# Altium footprint library GNSS.PcbLib: 2 footprints
Each footprint in its own frame and in the unit in brackets; x right, y up, seen from the top. Pads: shape width x height; smd on the part's side, far side on the other; paste and mask are expansions set on the pad; w line width, h text height; cw(c..) or ccw(c..) is an arc to the next point about the centre after c.
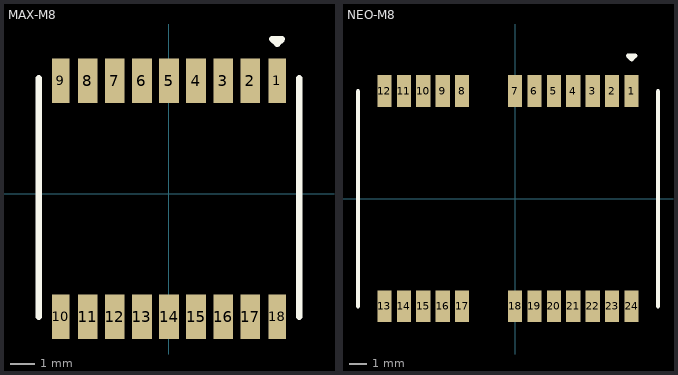
[diagram p0: the footprints below, top view; thin cyan lines are the x and y axes]

## MAX-M8 [mm] "UBlox GNSS module"
height 2.7
pads (18):
  rect 0.7x1.8 smd: 1(4.4,4.6) 9(-4.4,4.6) 10(-4.4,-5) 18(4.4,-5)
  rect 0.8x1.8 smd: 2(3.3,4.6) 3(2.2,4.6) 4(1.1,4.6) 5(0,4.6) 6(-1.1,4.6) 7(-2.2,4.6) 8(-3.3,4.6) 11(-3.3,-5) 12(-2.2,-5) 13(-1.1,-5) 14(0,-5) 15(1.1,-5) 16(2.2,-5) 17(3.3,-5)
Top Overlay:
  lines w0.254: -5.3,-5 -5.3,4.7 ; 5.3,-5 5.3,4.7 ; 4.2,6.3 4.6,6.3 4.4,6.1 4.2,6.3
3D body "User Library-MAX-M8 u-blox M8 Concurrent GNSS Module.step": height 2.5, standoff 0, extent -5.05,-5.051 5.05,4.651

## NEO-M8 [mm] "UBlox GNSS module"
height 2.7
pads (24):
  rect 0.8x1.8 smd: 1(6.6,6.1) 2(5.5,6.1) 3(4.4,6.1) 4(3.3,6.1) 5(2.2,6.1) 6(1.1,6.1) 7(0,6.1) 8(-3,6.1) 9(-4.1,6.1) 10(-5.2,6.1) 11(-6.3,6.1) 12(-7.4,6.1) 13(-7.4,-6.1) 14(-6.3,-6.1) 15(-5.2,-6.1) 16(-4.1,-6.1) 17(-3,-6.1) 18(0,-6.1) 19(1.1,-6.1) 20(2.2,-6.1) 21(3.3,-6.1) 22(4.4,-6.1) 23(5.5,-6.1) 24(6.6,-6.1)
Top Overlay:
  lines w0.254: -8.9,-6.1 -8.9,6.1 ; 8.1,-6.1 8.1,6.1 ; 6.4,8.1 6.8,8.1 6.6,7.9 6.4,8.1
3D body "User Library-UBLOX_GPS_NEO-6M.step": height 2.64, standoff 0, extent -8.7,-6.18 7.9,6.18